# Altium schematic symbol library Custom1.SchLib: 476 symbols (part 11 of 16)
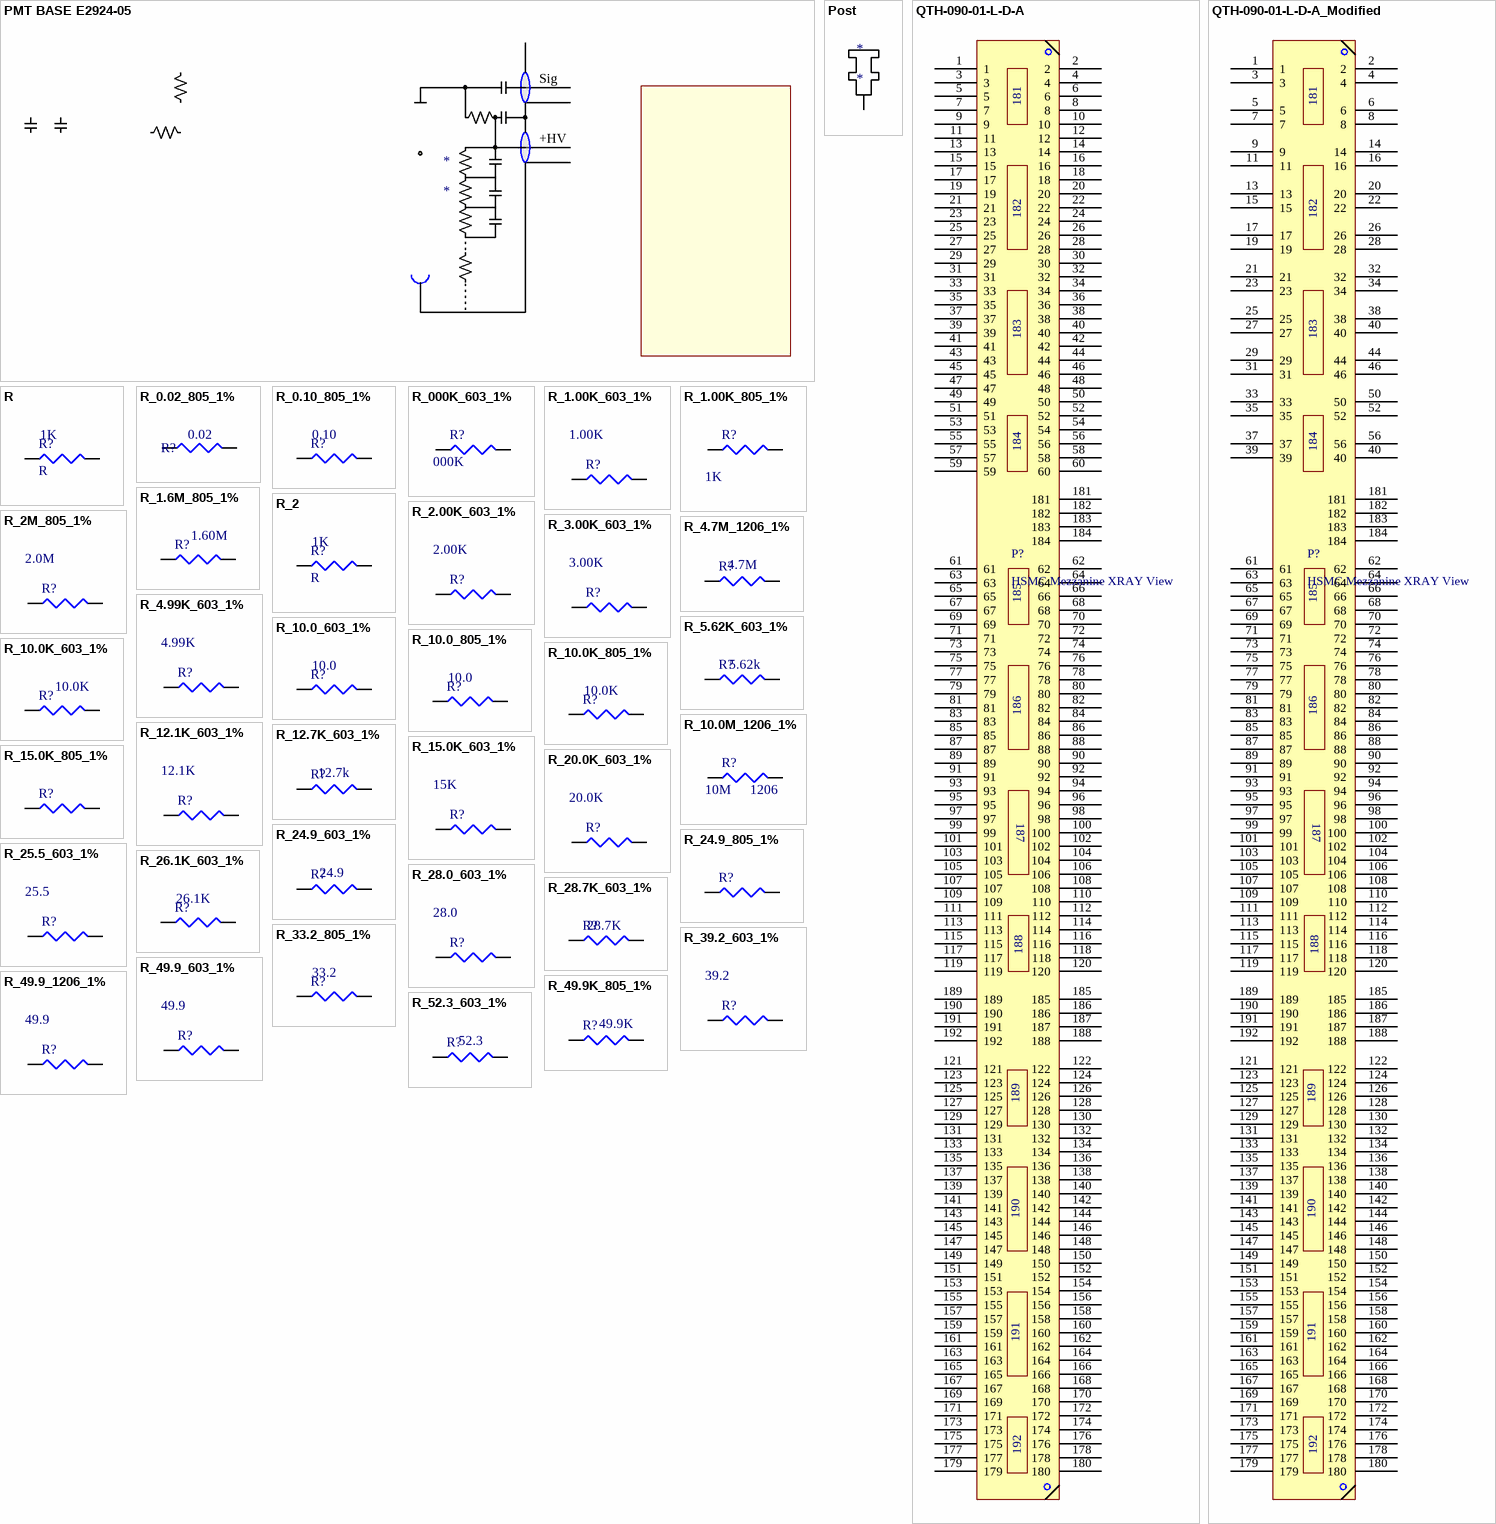
[diagram p35: symbols PMT BASE E2924-05 to R_52.3_603_1%]

## QTH-090-01-L-D-A
designator P?, comment HSMC Mezzanine XRAY View
CONN HEADER HS .5MM 180POS DL AU; Manufacturer: Samtec Inc; Manufacturer Part Number: QTH-090-01-L-D-A; Connector Type: Header, Outer Shroud Contacts; Number of Positions: 180; Pitch: 0.020" (0.50mm); Mated Stacking Heights: 5mm; Supplier 1: Digi-Key; Supplier Part Number 1: SAM8193-ND; RoHS: RoHS Compliant; Category: Connectors, Interconnects; Stock: 240; Pricing: 1=11.3, 10=10.919, 50=10.1656, 100=9.789, 250=9.60076, 500=9.4125, 1000=9.036, 2500=8.8854 (USD); Packaging: Tray; Number of Rows: 2; Mounting Type: Surface Mount; Features: Board Guide, Ground Bus (Plane); Contact Finish: Gold; Contact Finish Thickness: 10µin (0.25µm); Height Above Board: 0.168" (4.27mm); ComponentLink1URL: http://www.samtec.com/ftppub/cpdf/QTH-XXX-XX-X-D-XXX-MKT.pdf; ComponentLink1Description: http://www.samtec.com/ftppub/cpdf/QTH-XXX-XX-X-D-XXX-MKT.pdf
footprint QTH-090-01-X-D-A (0.50mm pitch, 180 pin, high speed terminal strip)
pins: 1, 2, 3, 4, 5, 6, 7, 8, 9, 10, 11, 12, 13, 14, 15, 16, 17, 18, 19, 20, 21, 22, 23, 24, 25, 26, 27, 28, 29, 30, 31, 32, 33, 34, 35, 36, 37, 38, 39, 40, 41, 42, 43, 44, 45, 46, 47, 48, 49, 50, 51, 52, 53, 54, 55, 56, 57, 58, 59, 60, 61, 62, 63, 64, 65, 66, 67, 68, 69, 70, 71, 72, 73, 74, 75, 76, 77, 78, 79, 80, 81, 82, 83, 84, 85, 86, 87, 88, 89, 90, 91, 92, 93, 94, 95, 96, 97, 98, 99, 100, 101, 102, 103, 104, 105, 106, 107, 108, 109, 110, 111, 112, 113, 114, 115, 116, 117, 118, 119, 120, 121, 122, 123, 124, 125, 126, 127, 128, 129, 130, 131, 132, 133, 134, 135, 136, 137, 138, 139, 140, 141, 142, 143, 144, 145, 146, 147, 148, 149, 150, 151, 152, 153, 154, 155, 156, 157, 158, 159, 160, 161, 162, 163, 164, 165, 166, 167, 168, 169, 170, 171, 172, 173, 174, 175, 176, 177, 178, 179, 180, 181, 182, 183, 184, 185, 186, 187, 188, 189, 190, 191, 192

## QTH-090-01-L-D-A_Modified
designator P?, comment HSMC Mezzanine XRAY View
CONN HEADER HS .5MM 180POS DL AU; Manufacturer: Samtec Inc; Manufacturer Part Number: QTH-090-01-L-D-A; Connector Type: Header, Outer Shroud Contacts; Number of Positions: 180; Pitch: 0.020" (0.50mm); Mated Stacking Heights: 5mm; Supplier 1: Digi-Key; Supplier Part Number 1: SAM8193-ND; RoHS: RoHS Compliant; Category: Connectors, Interconnects; Stock: 240; Pricing: 1=11.3, 10=10.919, 50=10.1656, 100=9.789, 250=9.60076, 500=9.4125, 1000=9.036, 2500=8.8854 (USD); Packaging: Tray; Number of Rows: 2; Mounting Type: Surface Mount; Features: Board Guide, Ground Bus (Plane); Contact Finish: Gold; Contact Finish Thickness: 10µin (0.25µm); Height Above Board: 0.168" (4.27mm); ComponentLink1URL: http://www.samtec.com/ftppub/cpdf/QTH-XXX-XX-X-D-XXX-MKT.pdf; ComponentLink1Description: http://www.samtec.com/ftppub/cpdf/QTH-XXX-XX-X-D-XXX-MKT.pdf
footprint QTH-090-01-X-D-A (0.50mm pitch, 180 pin, high speed terminal strip)
pins: 1, 2, 3, 4, 5, 6, 7, 8, 9, 11, 13, 14, 15, 16, 17, 19, 20, 21, 22, 23, 25, 26, 27, 28, 29, 31, 32, 33, 34, 35, 37, 38, 39, 40, 40, 44, 46, 50, 52, 56, 61, 62, 63, 64, 65, 66, 67, 68, 69, 70, 71, 72, 73, 74, 75, 76, 77, 78, 79, 80, 81, 82, 83, 84, 85, 86, 87, 88, 89, 90, 91, 92, 93, 94, 95, 96, 97, 98, 99, 100, 101, 102, 103, 104, 105, 106, 107, 108, 109, 110, 111, 112, 113, 114, 115, 116, 117, 118, 119, 120, 121, 122, 123, 124, 125, 126, 127, 128, 129, 130, 131, 132, 133, 134, 135, 136, 137, 138, 139, 140, 141, 142, 143, 144, 145, 146, 147, 148, 149, 150, 151, 152, 153, 154, 155, 156, 157, 158, 159, 160, 161, 162, 163, 164, 165, 166, 167, 168, 169, 170, 171, 172, 173, 174, 175, 176, 177, 178, 179, 180, 181, 182, 183, 184, 185, 186, 187, 188, 189, 190, 191, 192

## R
designator R?  value 1K
Resistor; PackageDescription: Chip Resistor; Package / Case: 0603
simulation model RESISTOR (Resistor)
signal-integrity model Res
pins: 1, 2

## R_0.02_805_1%
designator R?  value 0.02  (hidden comment: R_0.02_805_1%)
RES 0.02 OHM 1/8W 1% 0805 SMD; Manufacturer: Panasonic Electronic Components; Manufacturer Part Number: ERJ-6BWFR020V; Power (Watts): 0.5W, 1/2W; Temperature Coefficient: ±200ppm/°C; Supplier 1: Digi-Key; RoHS: RoHS Compliant; Category: Resistors; Stock 1: 32340; Pricing 1: 1=1.15, 50=0.6152, 100=0.5383, 250=0.4768, 500=0.39988, 1000=0.3076 (USD); Packaging: Cut Tape (CT); Resistance (Ohms): 0.02; Tolerance: ±1%; Composition: Thick Film; Features: Automotive AEC-Q200, Current Sense; Operating Temperature: -55°C ~ 155°C; Package / Case: 0805 (2012 Metric); Supplier Device Package: 0805; Size / Dimension: 0.079" L x 0.049" W (2.00mm x 1.25mm); Height: 0.030" (0.75mm); Number of Terminations: 2; ComponentLink1URL: http://industrial.panasonic.com/www-data/pdf/AOA0000/AOA0000CE3.pdf; ComponentLink1Description: http://industrial.panasonic.com/www-data/pdf/AOA0000/AOA0000CE3.pdf; Supplier Part Number 1: P.02AQCT-ND
simulation model RESISTOR (Resistor)
signal-integrity model Res
footprint RES_0603 (Chip Resistor, Body 1.6x0.8mm, IPC Medium Density)
footprint RES_0805 (Chip Resistor, Body 2.0x1.3mm, IPC Medium Density)
footprint RES_1206 (Chip Resistor, Body 3.2x1.6mm, IPC Medium Density)
footprint RES_0402 (Chip Resistor, Body 1.1x0.5mm, IPC Medium Density)
pins: 1, 2

## R_0.10_805_1%
designator R?  value 0.10  (hidden comment: R_0.10_805_1%)
RES 0.10 OHM 1/8W 1% 0805 SMD; Manufacturer: Bourns Inc.; Manufacturer Part Number: CRL0805-FW-R100ELF; Resistance (Ohms): 0.1; Power (Watts): 0.125W, 1/8W; Temperature Coefficient: ±200ppm/°C; Supplier 1: Digi-Key; Supplier Part Number 1: CRL0805-FW-R100ELFCT-ND; RoHS: RoHS Compliant By Exemption; Category: Resistors; Stock: 11595; Pricing: 1=0.38, 10=0.326, 25=0.2368, 50=0.1716, 100=0.1273, 250=0.09768, 500=0.07696, 1000=0.05328, 2500=0.04884 (USD); Packaging: Cut Tape (CT); Tolerance: ±1%; Composition: Thick Film; Features: -; Package / Case: 0805 (2012 Metric); Supplier Device Package: 0805; Size / Dimension: 0.079" L x 0.049" W (2.00mm x 1.25mm); Height: 0.024" (0.60mm); Number of Terminations: 2; ComponentLink1URL: http://www.bourns.com/data/global/pdfs/CRL.pdf; ComponentLink1Description: http://www.bourns.com/data/global/pdfs/CRL.pdf
simulation model RESISTOR (Resistor)
signal-integrity model Res
footprint RES_0603 (Chip Resistor, Body 1.6x0.8mm, IPC Medium Density)
footprint RES_0805 (Chip Resistor, Body 2.0x1.3mm, IPC Medium Density)
footprint RES_1206 (Chip Resistor, Body 3.2x1.6mm, IPC Medium Density)
footprint RES_0402 (Chip Resistor, Body 1.1x0.5mm, IPC Medium Density)
pins: 1, 2

## R_000K_603_1%
designator R?  value 000K  (hidden comment: R_000K_603_1%)
RES 000K OHM 1/10W 1% 0603 SMD; Manufacturer: Vishay Dale; Manufacturer Part Number: CRCW0603100KFKEA; Resistance (Ohms): 100k; Power (Watts): 0.1W, 1/10W; Temperature Coefficient: ±100ppm/°C; Supplier 1: Digi-Key; RoHS: RoHS Compliant; Category: Resistors; Stock 1: 784971; Pricing 1: 10=0.081, 50=0.0436, 200=0.0251, 1000=0.01711 (USD); Packaging: Cut Tape (CT); Tolerance: ±1%; Composition: Thick Film; Features: Automotive AEC-Q200; Operating Temperature: -55°C ~ 155°C; Package / Case: 0603 (1608 Metric); Supplier Device Package: 0603 (1608 Metric); Size / Dimension: 0.061" L x 0.033" W (1.55mm x 0.85mm); Height: 0.020" (0.50mm); Number of Terminations: 2; ComponentLink1URL: http://www.vishay.com/docs/20035/dcrcwe3.pdf; ComponentLink1Description: http://www.vishay.com/docs/20035/dcrcwe3.pdf; Supplier Part Number 1: 541-100KHCT-ND
simulation model RESISTOR (Resistor)
signal-integrity model Res
footprint RES_0603 (Chip Resistor, Body 1.6x0.8mm, IPC Medium Density)
pins: 1, 2

## R_1.00K_603_1%
designator R?  Resistance: 1.00K  (hidden comment: R_1.00K_603_1%)
RES 1.00K OHM 1/10W 1% 0603 SMD; Manufacturer: Panasonic; Manufacturer Part Number: ERJ3EKF1001V; Temperature Coefficient: 100ppm/°C; Power Rating: 100mW; Voltage Rating: 75V; Supplier 1: Digi-Key; Stock 1: 12424274; Pricing 1: 1 = 0.100000, 10 = 0.065000, 100 = 0.026400, 1000 = 0.011860, 2500 = 0.010290 (USD); RoHS: Yes; Mount: Surface Mount; Case/Package: 0603; Number of Pins: 2; Contact Plating: Tin; Case Code (Metric): 1608; Case Code (Imperial): 0603; Min Operating Temperature: -55°C; Max Operating Temperature: 155°C; Tolerance: 1%; Composition: Thick Film; Packaging: Tape and Reel; Package Quantity: 1; Number of Terminations: 2; Termination: SMD/SMT; Military Standard: Not; Max Power Dissipation: 100mW; Voltage Rating (DC): 75V; Features: Automotive AEC-Q200; Length: 1.6mm; Height: 0.45mm; Width: 0.031inch; Depth: 0.8mm; Radiation Hardening: No; REACH SVHC: No SVHC; Lead Free: Lead Free; ComponentLink1URL: https://datasheet.ciiva.com/16768/70260748-16768437.pdf?src-supplier=Allied+Electronics; ComponentLink1Description: https://datasheet.ciiva.com/16768/70260748-16768437.pdf?src-supplier=Allied+Electronics; ComponentLink2URL: https://datasheet.ciiva.com/16774/70260748-16774550.pdf?src-supplier=Allied+Electronics; ComponentLink2Description: https://datasheet.ciiva.com/16774/70260748-16774550.pdf?src-supplier=Allied+Electronics; ComponentLink3URL: https://datasheet.ciiva.com/16449/aoa0000ce2-16449065.pdf?src-supplier=Future+Electronics; ComponentLink3Description: https://datasheet.ciiva.com/16449/aoa0000ce2-16449065.pdf?src-supplier=Future+Electronics; ComponentLink4URL: https://datasheet.ciiva.com/7942/aoa0000ce2-7942427.pdf?src-supplier=Element14; ComponentLink4Description: https://datasheet.ciiva.com/7942/aoa0000ce2-7942427.pdf?src-supplier=Element14; ComponentLink5URL: https://datasheet.ciiva.com/9198/aoa0000ce2-9198923.pdf?src-supplier=Avnet; ComponentLink5Description: https://datasheet.ciiva.com/9198/aoa0000ce2-9198923.pdf?src-supplier=Avnet; ComponentLink6URL: https://datasheet.ciiva.com/46373/1678782-46373339.pdf?src-supplier=Element14; ComponentLink6Description: https://datasheet.ciiva.com/46373/1678782-46373339.pdf?src-supplier=Element14; ComponentLink7URL: https://datasheet.ciiva.com/48530/aoa0000ce2-48530987.pdf?src-supplier=Avnet; ComponentLink7Description: https://datasheet.ciiva.com/48530/aoa0000ce2-48530987.pdf?src-supplier=Avnet; ComponentLink8URL: https://datasheet.ciiva.com/46373/1678782-46373340.pdf?src-supplier=Element14; ComponentLink8Description: https://datasheet.ciiva.com/46373/1678782-46373340.pdf?src-supplier=Element14; ComponentLink9URL: https://datasheet.ciiva.com/24070/aoa0000ce2-24070269.pdf?src-supplier=Mouser; ComponentLink9Description: https://datasheet.ciiva.com/24070/aoa0000ce2-24070269.pdf?src-supplier=Mouser; ComponentLink10URL: https://datasheet.ciiva.com/22673/1678782-22673918.pdf?src-supplier=Element14; ComponentLink10Description: https://datasheet.ciiva.com/22673/1678782-22673918.pdf?src-supplier=Element14; ComponentLink11URL: https://datasheet.ciiva.com/30063/aoa0000ce2-30063390.pdf?src-supplier=Onlinecomponents.com; ComponentLink11Description: https://datasheet.ciiva.com/30063/aoa0000ce2-30063390.pdf?src-supplier=Onlinecomponents.com; ComponentLink12URL: https://datasheet.ciiva.com/17215/aoa0000ce2-17215311.pdf?src-supplier=Avnet+Europe; ComponentLink12Description: https://datasheet.ciiva.com/17215/aoa0000ce2-17215311.pdf?src-supplier=Avnet+Europe; Supplier Part Number 1: P1.00KHCT-ND
simulation model RESISTOR (Resistor)
signal-integrity model Res
footprint RES_0603 (Chip Resistor, Body 1.6x0.8mm, IPC Medium Density)
pins: 1, 2

## R_1.00K_805_1%
designator R?  value 1K  (hidden comment: R_1.00K_805_1%)
RES 1.00K OHM 1/10W 1% 0805 SMD; Manufacturer: Vishay Dale; Manufacturer Part Number: CRCW08051K00FKEA; Resistance: 1kR; Temperature Coefficient: 100ppm/°C; Power Rating: 125mW; Voltage Rating: 150V; ComponentLink1URL: http://www.vishay.com/doc?20035; ComponentLink1Description: http://www.vishay.com/doc?20035; Case/Package: 0805; Number of Pins: 2; Weight: 0.000194oz; Contact Plating: Tin; Case Code (Imperial): 0805; Case Code (Metric): 2012; Min Operating Temperature: -55°C; Max Operating Temperature: 155°C; Tolerance: 1%; Composition: Thick Film; Termination: SMD/SMT; Packaging: Tape and Reel; Package Quantity: 5000; Military Standard: Not; Voltage Rating (DC): 150V; Length: 2mm; Height: 0.45mm; Width: 1.25mm; Depth: 1.25mm; Radiation Hardening: No; Lead Free: Lead Free; REACH SVHC: Unknown; ComponentLink2URL: https://datasheet.ciiva.com/11808/0900766b80d98b26-11808530.pdf; ComponentLink2Description: https://datasheet.ciiva.com/11808/0900766b80d98b26-11808530.pdf; ComponentLink3URL: https://datasheet.ciiva.com/46381/1697337-46381606.pdf; ComponentLink3Description: https://datasheet.ciiva.com/46381/1697337-46381606.pdf; ComponentLink4URL: https://datasheet.ciiva.com/3258/dcrcwe3-3258215.pdf; ComponentLink4Description: https://datasheet.ciiva.com/3258/dcrcwe3-3258215.pdf; ComponentLink5URL: https://datasheet.ciiva.com/3258/dcrcwe3-3258216.pdf; ComponentLink5Description: https://datasheet.ciiva.com/3258/dcrcwe3-3258216.pdf; ComponentLink6URL: https://datasheet.ciiva.com/46441/1720486-46441626.pdf; ComponentLink6Description: https://datasheet.ciiva.com/46441/1720486-46441626.pdf; ComponentLink7URL: https://datasheet.ciiva.com/26312/fld-crcw-e3-data-en-26312922.pdf; ComponentLink7Description: https://datasheet.ciiva.com/26312/fld-crcw-e3-data-en-26312922.pdf; ComponentLink8URL: https://datasheet.ciiva.com/16213/dcrcwe3-16213643.pdf; ComponentLink8Description: https://datasheet.ciiva.com/16213/dcrcwe3-16213643.pdf; ComponentLink9URL: https://datasheet.ciiva.com/17204/dcrcwe3-17204396.pdf; ComponentLink9Description: https://datasheet.ciiva.com/17204/dcrcwe3-17204396.pdf; Supplier 1: Digi-Key; Supplier Part Number 1: 541-1.00KCCT-ND; Parameter 1: *
simulation model RESISTOR (Resistor)
signal-integrity model Res
footprint RES_0805 (Chip Resistor, Body 2.0x1.3mm, IPC Medium Density)
pins: 1, 2

## R_1.6M_805_1%
designator R?  value 1.60M  (hidden comment: R_1.6M_805_1%)
RES 15.0K OHM 1/8W 1% 0805 SMD; Manufacturer: Vishay Dale; Manufacturer Part Number: CRCW08051M60FKEA; Resistance (Ohms): 1.6M; Power (Watts): 0.125W, 1/8W; Temperature Coefficient: ±100ppm/°C; Supplier 1: Digi-Key; RoHS: RoHS Compliant; Category: Resistors; Stock 1: 11120; Pricing 1: 10=0.089, 50=0.0482, 200=0.02765, 1000=0.01885 (USD); Packaging: Cut Tape (CT); Tolerance: ±1%; Composition: Thick Film; Features: Automotive AEC-Q200; Operating Temperature: -55°C ~ 155°C; Package / Case: 0805 (2012 Metric); Supplier Device Package: 0805 (2012 Metric); Size / Dimension: 0.079" L x 0.049" W (2.00mm x 1.25mm); Height: 0.020" (0.50mm); Number of Terminations: 2; ComponentLink1URL: http://www.vishay.com/docs/20035/dcrcwe3.pdf; ComponentLink1Description: http://www.vishay.com/docs/20035/dcrcwe3.pdf; Supplier Part Number 1: 541-1.60MCCT-ND
simulation model RESISTOR (Resistor)
signal-integrity model Res
footprint RES_0603 (Chip Resistor, Body 1.6x0.8mm, IPC Medium Density)
footprint RES_0805 (Chip Resistor, Body 2.0x1.3mm, IPC Medium Density)
footprint RES_1206 (Chip Resistor, Body 3.2x1.6mm, IPC Medium Density)
footprint RES_0402 (Chip Resistor, Body 1.1x0.5mm, IPC Medium Density)
pins: 1, 2

## R_2
designator R?, comment R  value 1K
Resistor; PackageDescription: Chip Resistor; Package / Case: 0603
footprint J1-0603 (Chip Resistor, Body 1.6x0.8mm, IPC High Density)
footprint 14-1210 (Chip Resistor, Body 3.2x2.5mm, IPC High Density)
footprint 12Z-2010 (Chip Resistor, Body 5.0x2.5mm, IPC High Density)
footprint RESC6332 (Chip Resistor, Body 6.3x3.2mm, IPC High Density)
simulation model RESISTOR (Resistor)
signal-integrity model Res
footprint ERA-0805 (Chip Resistor; Body 2 x 1.3 mm (LxW typ))
pins: 1, 2

## R_2.00K_603_1%
designator R?  Resistance: 2.00K  (hidden comment: R_2.00K_603_1%)
RES 2.00K OHM 1/10W 1% 0603 SMD; Manufacturer: Panasonic; Manufacturer Part Number: ERJ3EKF2001V; Temperature Coefficient: 100ppm/°C; Max Power Dissipation: 100mW; Voltage Rating: 75V; Voltage Rating (DC): 50V; Supplier 1: Digi-Key; Stock 1: 3931284; Pricing 1: 1 = 0.10000, 10 = 0.06500, 100 = 0.02640, 1000 = 0.01186, 2500 = 0.01029 (USD); RoHS: Yes; Mount: Surface Mount; Case/Package: 0603; Contact Plating: Tin; Case Code (Metric): 1608; Case Code (Imperial): 0603; Min Operating Temperature: -55°C; Max Operating Temperature: 155°C; Tolerance: 1%; Composition: Thick Film; Packaging: Tape and Reel; Package Quantity: 1; Number of Terminations: 2; Features: Automotive AEC-Q200; Power Rating: 100mW; Military Standard: Not; Termination: SMD/SMT; Length: 1.6mm; Height: 0.022inch; Width: 0.031inch; Depth: 0.8mm; Radiation Hardening: No; REACH SVHC: No SVHC; Lead Free: Lead Free; ComponentLink1URL: https://datasheet.ciiva.com/16200/aoa0000ce2-16200501.pdf?src-supplier=Future+Electronics; ComponentLink1Description: https://datasheet.ciiva.com/16200/aoa0000ce2-16200501.pdf?src-supplier=Future+Electronics; ComponentLink2URL: https://datasheet.ciiva.com/43460/1678782-43460485.pdf?src-supplier=Farnell; ComponentLink2Description: https://datasheet.ciiva.com/43460/1678782-43460485.pdf?src-supplier=Farnell; ComponentLink3URL: https://datasheet.ciiva.com/28673/1678782-28673990.pdf?src-supplier=Element14; ComponentLink3Description: https://datasheet.ciiva.com/28673/1678782-28673990.pdf?src-supplier=Element14; ComponentLink4URL: https://datasheet.ciiva.com/46377/1678782-46377366.pdf?src-supplier=Element14; ComponentLink4Description: https://datasheet.ciiva.com/46377/1678782-46377366.pdf?src-supplier=Element14; ComponentLink5URL: https://datasheet.ciiva.com/30064/aoa0000ce2-30064920.pdf?src-supplier=Onlinecomponents.com; ComponentLink5Description: https://datasheet.ciiva.com/30064/aoa0000ce2-30064920.pdf?src-supplier=Onlinecomponents.com; ComponentLink6URL: https://datasheet.ciiva.com/16771/70260748-16771369.pdf?src-supplier=Allied+Electronics; ComponentLink6Description: https://datasheet.ciiva.com/16771/70260748-16771369.pdf?src-supplier=Allied+Electronics; ComponentLink7URL: https://datasheet.ciiva.com/17214/aoa0000ce2-17214393.pdf?src-supplier=Avnet+Europe; ComponentLink7Description: https://datasheet.ciiva.com/17214/aoa0000ce2-17214393.pdf?src-supplier=Avnet+Europe; ComponentLink8URL: https://datasheet.ciiva.com/6082/1678782-6082059.pdf?src-supplier=Farnell; ComponentLink8Description: https://datasheet.ciiva.com/6082/1678782-6082059.pdf?src-supplier=Farnell; ComponentLink9URL: https://datasheet.ciiva.com/24027/aoa0000ce2-24027453.pdf?src-supplier=Mouser; ComponentLink9Description: https://datasheet.ciiva.com/24027/aoa0000ce2-24027453.pdf?src-supplier=Mouser; Supplier Part Number 1: P2.00KHCT-ND
simulation model RESISTOR (Resistor)
signal-integrity model Res
footprint RES_0603 (Chip Resistor, Body 1.6x0.8mm, IPC Medium Density)
pins: 1, 2

## R_2M_805_1%
designator R?  Resistance: 2.0M  (hidden comment: R_2M_805_1%)
RES 2M OHM 1/8W 1% 0805 SMD; Manufacturer: Panasonic; Manufacturer Part Number: ERJ-6ENF2004V; Power Rating: 125mW; Voltage Rating: 150V; Temperature Coefficient: 100ppm/°C; ComponentLink1URL: http://www.vishay.com/docs/28773/crcwce3.pdf?src-supplier=Digi-Key; ComponentLink1Description: http://www.vishay.com/docs/28773/crcwce3.pdf?src-supplier=Digi-Key; Supplier 1: Digi-Key; Stock 1: 159494; Pricing 1: 1=0.10000, 10=0.08100, 100=0.03110, 1000=0.01367, 2500=0.01181 (USD); RoHS: Yes; Mount: Surface Mount; Case/Package: 0805; Case Code (Metric): 2012; Case Code (Imperial): 0805; Contact Plating: Tin; Min Operating Temperature: -55°C; Max Operating Temperature: 155°C; Tolerance: 1%; Packaging: Tape and Reel; Package Quantity: 1; Composition: Thick Film; Number of Terminations: 2; Termination: SMD/SMT; Military Standard: Not; Max Power Dissipation: 125mW; Voltage Rating (DC): 150V; Features: Automotive AEC-Q200; Length: 2mm; Height: 0.6mm; Width: 0.049inch; Depth: 1.25mm; Radiation Hardening: No; REACH SVHC: No SVHC; Lead Free: Lead Free; ComponentLink2URL: https://datasheet.ciiva.com/11821/0900766b80f80784-11821606.pdf?src-supplier=RSComponents; ComponentLink2Description: https://datasheet.ciiva.com/11821/0900766b80f80784-11821606.pdf?src-supplier=RSComponents; ComponentLink3URL: https://datasheet.ciiva.com/27055/1989148-27055740.pdf?src-supplier=Jameco; ComponentLink3Description: https://datasheet.ciiva.com/27055/1989148-27055740.pdf?src-supplier=Jameco; ComponentLink4URL: https://datasheet.ciiva.com/46420/1678782-46420189.pdf?src-supplier=Element14; ComponentLink4Description: https://datasheet.ciiva.com/46420/1678782-46420189.pdf?src-supplier=Element14; ComponentLink5URL: https://datasheet.ciiva.com/16776/70260748-16776719.pdf?src-supplier=Allied+Electronics; ComponentLink5Description: https://datasheet.ciiva.com/16776/70260748-16776719.pdf?src-supplier=Allied+Electronics; Supplier Part Number 1: P2.00MCCT-ND
simulation model RESISTOR (Resistor)
signal-integrity model Res
footprint RES_0603 (Chip Resistor, Body 1.6x0.8mm, IPC Medium Density)
footprint RES_0805 (Chip Resistor, Body 2.0x1.3mm, IPC Medium Density)
footprint RES_1206 (Chip Resistor, Body 3.2x1.6mm, IPC Medium Density)
footprint RES_0402 (Chip Resistor, Body 1.1x0.5mm, IPC Medium Density)
pins: 1, 2

## R_3.00K_603_1%
designator R?  Resistance: 3.00K  (hidden comment: R_3.00K_603_1%)
RES 3.00K OHM 1/10W 1% 0603 SMD; Manufacturer: Panasonic; Manufacturer Part Number: ERJ3EKF3001V; Power Rating: 100mW; Voltage Rating: 75V; Temperature Coefficient: 100ppm/°C; Supplier 1: Digi-Key; Stock 1: 718346; Pricing 1: 1 = 0.10000, 10 = 0.06500, 100 = 0.02640, 1000 = 0.01186, 2500 = 0.01029 (USD); RoHS: Yes; Mount: Surface Mount; Case/Package: 0603; Case Code (Metric): 1608; Case Code (Imperial): 0603; Contact Plating: Tin; Min Operating Temperature: -55°C; Max Operating Temperature: 155°C; Packaging: Tape and Reel; Tolerance: 1%; Package Quantity: 1; Composition: Thick Film; Number of Terminations: 2; Termination: SMD/SMT; Military Standard: Not; Max Power Dissipation: 100mW; Voltage Rating (DC): 75V; Features: Automotive AEC-Q200; Length: 1.6mm; Height: 0.022inch; Width: 0.031inch; Depth: 0.8mm; Radiation Hardening: No; REACH SVHC: No SVHC; Lead Free: Lead Free; ComponentLink1URL: https://datasheet.ciiva.com/16782/70260748-16782535.pdf?src-supplier=Allied+Electronics; ComponentLink1Description: https://datasheet.ciiva.com/16782/70260748-16782535.pdf?src-supplier=Allied+Electronics; ComponentLink2URL: https://datasheet.ciiva.com/46373/1678782-46373975.pdf?src-supplier=Element14; ComponentLink2Description: https://datasheet.ciiva.com/46373/1678782-46373975.pdf?src-supplier=Element14; ComponentLink3URL: https://datasheet.ciiva.com/9116/aoa0000ce2-9116984.pdf?src-supplier=Avnet; ComponentLink3Description: https://datasheet.ciiva.com/9116/aoa0000ce2-9116984.pdf?src-supplier=Avnet; ComponentLink4URL: https://datasheet.ciiva.com/46386/1678782-46386728.pdf?src-supplier=Element14; ComponentLink4Description: https://datasheet.ciiva.com/46386/1678782-46386728.pdf?src-supplier=Element14; ComponentLink5URL: https://datasheet.ciiva.com/9116/aoa0000ce2-9116986.pdf?src-supplier=Avnet; ComponentLink5Description: https://datasheet.ciiva.com/9116/aoa0000ce2-9116986.pdf?src-supplier=Avnet; ComponentLink6URL: https://datasheet.ciiva.com/30198/aoa0000ce2-30198332.pdf?src-supplier=Onlinecomponents.com; ComponentLink6Description: https://datasheet.ciiva.com/30198/aoa0000ce2-30198332.pdf?src-supplier=Onlinecomponents.com; ComponentLink7URL: https://datasheet.ciiva.com/24027/aoa0000ce2-24027133.pdf?src-supplier=Mouser; ComponentLink7Description: https://datasheet.ciiva.com/24027/aoa0000ce2-24027133.pdf?src-supplier=Mouser; ComponentLink8URL: https://datasheet.ciiva.com/28565/1678782-28565103.pdf?src-supplier=Element14; ComponentLink8Description: https://datasheet.ciiva.com/28565/1678782-28565103.pdf?src-supplier=Element14; Supplier Part Number 1: P3.00KHCT-ND
simulation model RESISTOR (Resistor)
signal-integrity model Res
footprint RES_0603 (Chip Resistor, Body 1.6x0.8mm, IPC Medium Density)
pins: 1, 2

## R_4.7M_1206_1%
designator R?  Resistance: 4.7M  (hidden comment: R_4.7M_1206_1%)
4.7 MOhms ±1% 0.25W, 1/4W Chip Resistor 1206 (3216 Metric) Automotive AEC-Q200, High Voltage Thick Film; Manufacturer: Rohm; Manufacturer Part Number: KTR18EZPF4704; Power Rating: 250mW; Temperature Coefficient: 100ppm/°C; ComponentLink1Description: Datasheet; ComponentLink1URL: https://www.rohm.com/datasheet/KTR03EZPF/ktr-e; ComponentLink2Description: Supplier Link; ComponentLink2URL: https://www.digikey.com/products/en?keywords=RHM4.7MAICT-ND; Supplier 1: Digi-Key; Stock 1: 6349; Pricing 1: 1=0.21000, 10=0.17800, 100=0.06950, 1000=0.02911, 2500=0.02668 (USD); RoHS: Yes; Tolerance: 1%; Lead Free: Lead Free; ComponentLink3URL: https://www.rohm.com/datasheet/KTR03EZPF/ktr-e?src-supplier=Digi-Key; ComponentLink3Description: https://www.rohm.com/datasheet/KTR03EZPF/ktr-e?src-supplier=Digi-Key; ComponentLink4URL: http://rohmfs.rohm.com/en/products/databook/datasheet/passive/resistor/chip_resistor/ktr.pdf?src-supplier=Future+Electronics; ComponentLink4Description: http://rohmfs.rohm.com/en/products/databook/datasheet/passive/resistor/chip_resistor/ktr.pdf?src-supplier=Future+Electronics; Supplier Part Number 1: RHM4.7MAICT-ND
simulation model RESISTOR (Resistor)
signal-integrity model Res
footprint RES_1206 (Chip Resistor, Body 3.2x1.6mm, IPC Medium Density)
pins: 1, 2

## R_4.99K_603_1%
designator R?  Resistance: 4.99K  (hidden comment: R_4.99K_603_1%)
RES 4.99K OHM 1/10W 1% 0603 SMD; Manufacturer: Panasonic; Manufacturer Part Number: ERJ3EKF4991V; Temperature Coefficient: 100ppm/°C; Power Rating: 100mW; Voltage Rating: 22.34V; Voltage Rating (DC): 50V; Supplier 1: Digi-Key; Stock 1: 2729693; Pricing 1: 1 = 0.10000, 10 = 0.06500, 100 = 0.02640, 1000 = 0.01186, 2500 = 0.01029 (USD); RoHS: Yes; Mount: Surface Mount; Case/Package: 0603; Contact Plating: Tin; Case Code (Metric): 1608; Case Code (Imperial): 0603; Min Operating Temperature: -55°C; Max Operating Temperature: 155°C; Tolerance: 1%; Composition: Thick Film; Packaging: Tape and Reel; Package Quantity: 1; Number of Terminations: 2; Termination: SMD/SMT; Military Standard: Not; Max Power Dissipation: 100mW; Features: Automotive AEC-Q200; Length: 1.6mm; Height: 0.022inch; Width: 0.031inch; Depth: 0.8mm; Radiation Hardening: No; REACH SVHC: No SVHC; Lead Free: Lead Free; ComponentLink1URL: https://datasheet.ciiva.com/6064/1678796-6064566.pdf?src-supplier=Farnell; ComponentLink1Description: https://datasheet.ciiva.com/6064/1678796-6064566.pdf?src-supplier=Farnell; ComponentLink2URL: https://datasheet.ciiva.com/16514/aoa0000ce2-16514087.pdf?src-supplier=Avnet+Asia; ComponentLink2Description: https://datasheet.ciiva.com/16514/aoa0000ce2-16514087.pdf?src-supplier=Avnet+Asia; ComponentLink3URL: https://datasheet.ciiva.com/22749/1678782-22749655.pdf?src-supplier=Element14; ComponentLink3Description: https://datasheet.ciiva.com/22749/1678782-22749655.pdf?src-supplier=Element14; ComponentLink4URL: https://datasheet.ciiva.com/24068/aoa0000ce2-24068247.pdf?src-supplier=Mouser; ComponentLink4Description: https://datasheet.ciiva.com/24068/aoa0000ce2-24068247.pdf?src-supplier=Mouser; ComponentLink5URL: https://datasheet.ciiva.com/48531/aoa0000ce2-48531015.pdf?src-supplier=Avnet; ComponentLink5Description: https://datasheet.ciiva.com/48531/aoa0000ce2-48531015.pdf?src-supplier=Avnet; ComponentLink6URL: https://datasheet.ciiva.com/16767/70260748-16767032.pdf?src-supplier=Allied+Electronics; ComponentLink6Description: https://datasheet.ciiva.com/16767/70260748-16767032.pdf?src-supplier=Allied+Electronics; ComponentLink7URL: https://datasheet.ciiva.com/28694/1678782-28694217.pdf?src-supplier=Element14; ComponentLink7Description: https://datasheet.ciiva.com/28694/1678782-28694217.pdf?src-supplier=Element14; ComponentLink8URL: https://datasheet.ciiva.com/30108/aoa0000ce2-30108827.pdf?src-supplier=Onlinecomponents.com; ComponentLink8Description: https://datasheet.ciiva.com/30108/aoa0000ce2-30108827.pdf?src-supplier=Onlinecomponents.com; ComponentLink9URL: https://datasheet.ciiva.com/9117/aoa0000ce2-9117117.pdf?src-supplier=Avnet; ComponentLink9Description: https://datasheet.ciiva.com/9117/aoa0000ce2-9117117.pdf?src-supplier=Avnet; ComponentLink10URL: https://datasheet.ciiva.com/46376/1678796-46376941.pdf?src-supplier=Element14; ComponentLink10Description: https://datasheet.ciiva.com/46376/1678796-46376941.pdf?src-supplier=Element14; Supplier Part Number 1: P4.99KHCT-ND
simulation model RESISTOR (Resistor)
signal-integrity model Res
footprint RES_0603 (Chip Resistor, Body 1.6x0.8mm, IPC Medium Density)
pins: 1, 2

## R_5.62K_603_1%
designator R?  Resistance (Ohms): 5.62k  (hidden comment: R_5.62K_603_1%)
RES 5.62K OHM 1/10W 1% 0603 SMD; Manufacturer: Vishay Dale; Manufacturer Part Number: CRCW06035K62FKEA; Power (Watts): 0.1W, 1/10W; Temperature Coefficient: ±100ppm/°C; Supplier 1: Digi-Key; RoHS: RoHS Compliant; Category: Resistors; Stock 1: 54990; Pricing 1: 10=0.081, 50=0.0436, 200=0.0251, 1000=0.01711 (USD); Packaging: Cut Tape (CT); Tolerance: ±1%; Composition: Thick Film; Features: Automotive AEC-Q200; Operating Temperature: -55°C ~ 155°C; Package / Case: 0603 (1608 Metric); Supplier Device Package: 0603 (1608 Metric); Size / Dimension: 0.061" L x 0.033" W (1.55mm x 0.85mm); Height: 0.020" (0.50mm); Number of Terminations: 2; ComponentLink1URL: http://www.vishay.com/docs/20035/dcrcwe3.pdf; ComponentLink1Description: http://www.vishay.com/docs/20035/dcrcwe3.pdf; Supplier Part Number 1: 541-5.62KHCT-ND
simulation model RESISTOR (Resistor)
signal-integrity model Res
footprint RES_0603 (Chip Resistor, Body 1.6x0.8mm, IPC Medium Density)
pins: 1, 2

## R_10.0_603_1%
designator R?  Resistance: 10.0  (hidden comment: R_10.0_603_1%)
RES 10.0 OHM 1/10W 1% 0603 SMD; Manufacturer: Panasonic; Manufacturer Part Number: ERJ3EKF10R0V; Power Rating: 100mW; Voltage Rating: 75V; Temperature Coefficient: 100ppm/°C; ComponentLink1Description: Datasheet; ComponentLink1URL: https://industrial.panasonic.com/cdbs/www-data/pdf/RDA0000/AOA0000C304.pdf; Supplier 1: Digi-Key; Stock 1: 1920000; Pricing 1: 5000 = 0.007730, 10000 = 0.006710, 25000 = 0.005900, 50000 = 0.005410, 125000 = 0.005300 (USD); RoHS: Yes; Mount: Surface Mount; Case/Package: 0603; Number of Pins: 2; Case Code (Imperial): 0603; Case Code (Metric): 1608; Contact Plating: Tin; Min Operating Temperature: -55°C; Max Operating Temperature: 155°C; Tolerance: 1%; Packaging: Tape and Reel; Package Quantity: 5000; Composition: Thick Film; Number of Terminations: 2; Termination: SMD/SMT; Military Standard: Not; Max Power Dissipation: 100mW; Voltage Rating (DC): 75V; Features: Automotive AEC-Q200; Working Voltage: 75V; Length: 1.6mm; Height: 0.45mm; Width: 0.8mm; Depth: 0.8mm; Radiation Hardening: No; REACH SVHC: No SVHC; Lead Free: Lead Free; ComponentLink2URL: https://datasheet.ciiva.com/9194/aoa0000ce2-9194166.pdf?src-supplier=Avnet; ComponentLink2Description: https://datasheet.ciiva.com/9194/aoa0000ce2-9194166.pdf?src-supplier=Avnet; ComponentLink3URL: https://datasheet.ciiva.com/30170/aoa0000ce2-30170135.pdf?src-supplier=Onlinecomponents.com; ComponentLink3Description: https://datasheet.ciiva.com/30170/aoa0000ce2-30170135.pdf?src-supplier=Onlinecomponents.com; Supplier Part Number 1: P10.0HTR-ND
simulation model RESISTOR (Resistor)
signal-integrity model Res
footprint RES_0603 (Chip Resistor, Body 1.6x0.8mm, IPC Medium Density)
footprint RES_0805 (Chip Resistor, Body 2.0x1.3mm, IPC Medium Density)
footprint RES_1206 (Chip Resistor, Body 3.2x1.6mm, IPC Medium Density)
footprint RES_0402 (Chip Resistor, Body 1.1x0.5mm, IPC Medium Density)
pins: 1, 2

## R_10.0_805_1%
designator R?  value 10.0  (hidden comment: R_10.0_805_1%)
RES 10.0 OHM 1/8W 1% 0805 SMD; Manufacturer: Vishay Dale; Manufacturer Part Number: CRCW080510R0FKEA; Resistance (Ohms): 10; Power (Watts): 0.125W, 1/8W; Temperature Coefficient: ±100ppm/°C; Supplier 1: Digi-Key; Supplier Part Number 1: 541-10.0CCT-ND; RoHS: RoHS Compliant; Category: Resistors; Stock: 0; Pricing: 10=0.089, 50=0.0482, 200=0.02765, 1000=0.01885 (USD); Packaging: Cut Tape (CT); Tolerance: ±1%; Composition: Thick Film; Features: Automotive AEC-Q200 Qualified; Package / Case: 0805 (2012 Metric); Supplier Device Package: 0805 (2012 Metric); Size / Dimension: 0.079" L x 0.049" W (2.00mm x 1.25mm); Height: 0.020" (0.50mm); Number of Terminations: 2; ComponentLink1URL: http://www.vishay.com/doc?20035; ComponentLink1Description: http://www.vishay.com/doc?20035
simulation model RESISTOR (Resistor)
signal-integrity model Res
footprint RES_0603 (Chip Resistor, Body 1.6x0.8mm, IPC Medium Density)
footprint RES_0805 (Chip Resistor, Body 2.0x1.3mm, IPC Medium Density)
footprint RES_1206 (Chip Resistor, Body 3.2x1.6mm, IPC Medium Density)
footprint RES_0402 (Chip Resistor, Body 1.1x0.5mm, IPC Medium Density)
pins: 1, 2

## R_10.0K_603_1%
designator R?  value 10.0K  (hidden comment: R_10.0K_603_1%)
RES 10.0K OHM 1/10W 1% 0603 SMD; Manufacturer: Panasonic; Manufacturer Part Number: ERJ3EKF1002V; Resistance: 10kR; Power Rating: 100mW; Voltage Rating: 75V; Temperature Coefficient: 100ppm/°C; Supplier 1: Digi-Key; Stock 1: 15986261; Pricing 1: 1 = 0.10000, 10 = 0.06500, 100 = 0.02640, 1000 = 0.01186, 2500 = 0.01029 (USD); RoHS: Yes; Mount: Surface Mount; Case/Package: 0603; Number of Pins: 2; Case Code (Metric): 1608; Case Code (Imperial): 0603; Contact Plating: Tin; Min Operating Temperature: -55°C; Max Operating Temperature: 155°C; Tolerance: 1%; Packaging: Tape and Reel; Package Quantity: 1; Composition: Thick Film; Number of Terminations: 2; Termination: SMD/SMT; Military Standard: Not; Max Power Dissipation: 100mW; Voltage Rating (DC): 75V; Features: Automotive AEC-Q200; Length: 1.6mm; Height: 0.45mm; Width: 0.031inch; Depth: 0.8mm; Radiation Hardening: No; REACH SVHC: No SVHC; Lead Free: Lead Free; Supplier Part Number 1: P10.0KHCT-ND; ComponentLink1Description: Tech Guide; ComponentLink1URL: https://industrial.panasonic.com/cdbs/www-data/pdf/RDA0000/DMA0000COL11.pdf?src-supplier=RSComponents; ComponentLink2Description: Supplier Link; ComponentLink2URL: https://www.digikey.com/products/en?keywords=P10.0KHCT-ND; ComponentLink3Description: Datasheet; ComponentLink3URL: https://industrial.panasonic.com/cdbs/www-data/pdf/RDA0000/AOA0000C304.pdf
simulation model RESISTOR (Resistor)
signal-integrity model Res
footprint RES_0603 (Chip Resistor, Body 1.6x0.8mm, IPC Medium Density)
pins: 1, 2

## R_10.0K_805_1%
designator R?  value 10.0K  (hidden comment: R_10.0K_805_1%)
RES 10.0K OHM 1/8W 1% 0805 SMD; Manufacturer: Vishay Dale; Manufacturer Part Number: CRCW080510K0FKEA; Resistance (Ohms): 10k; Power (Watts): 0.125W, 1/8W; Temperature Coefficient: ±100ppm/°C; Supplier 1: Digi-Key; RoHS: RoHS Compliant; Category: Resistors; Stock 1: 1198981; Pricing 1: 10=0.089, 50=0.0482, 200=0.02765, 1000=0.01885 (USD); Packaging: Cut Tape (CT); Tolerance: ±1%; Composition: Thick Film; Features: Automotive AEC-Q200; Operating Temperature: -55°C ~ 155°C; Package / Case: 0805 (2012 Metric); Supplier Device Package: 0805 (2012 Metric); Size / Dimension: 0.079" L x 0.049" W (2.00mm x 1.25mm); Height: 0.020" (0.50mm); Number of Terminations: 2; ComponentLink1URL: http://www.vishay.com/docs/20035/dcrcwe3.pdf; ComponentLink1Description: http://www.vishay.com/docs/20035/dcrcwe3.pdf; Supplier Part Number 1: 541-10.0KCCT-ND
simulation model RESISTOR (Resistor)
signal-integrity model Res
footprint RES_0603 (Chip Resistor, Body 1.6x0.8mm, IPC Medium Density)
footprint RES_0805 (Chip Resistor, Body 2.0x1.3mm, IPC Medium Density)
footprint RES_1206 (Chip Resistor, Body 3.2x1.6mm, IPC Medium Density)
footprint RES_0402 (Chip Resistor, Body 1.1x0.5mm, IPC Medium Density)
pins: 1, 2

## R_10.0M_1206_1%
designator R?  value 10M  SIZE: 1206  (hidden comment: R_10.0M_1206_1%)
RES SMD 10M OHM 1% 1/4W 1206; Manufacturer: Rohm Semiconductor; Manufacturer Part Number: KTR18EZPF1005; Power (Watts): 0.25W, 1/4W; Temperature Coefficient: ±100ppm/°C; Voltage: 200V; Supplier 1: Digi-Key; RoHS: RoHS Compliant; Category: Resistors; Stock 1: 4154; Pricing 1: 1=0.2, 10=0.169, 25=0.1232, 100=0.0662, 250=0.05084, 500=0.04004, 1000=0.02772 (USD); Packaging: Cut Tape (CT); Resistance (Ohms): 10M; Tolerance: ±1%; Composition: Thick Film; Features: Automotive AEC-Q200, High Voltage; Operating Temperature: -55°C ~ 155°C; Package / Case: 1206 (3216 Metric); Supplier Device Package: 1206 (3216 Metric); Size / Dimension: 0.126" L x 0.063" W (3.20mm x 1.60mm); Height: 0.026" (0.65mm); Number of Terminations: 2; ComponentLink1URL: http://rohmfs.rohm.com/en/products/databook/datasheet/passive/resistor/chip_resistor/ktr.pdf; ComponentLink1Description: http://rohmfs.rohm.com/en/products/databook/datasheet/passive/resistor/chip_resistor/ktr.pdf; Supplier Part Number 1: RHM10.0MAICT-ND
simulation model RESISTOR (Resistor)
signal-integrity model Res
footprint RES_1206 (Chip Resistor, Body 3.2x1.6mm, IPC Medium Density)
pins: 1, 2

## R_12.1K_603_1%
designator R?  Resistance: 12.1K  (hidden comment: R_12.1K_603_1%)
RES 12.1K OHM 1/10W 1% 0603 SMD; Manufacturer: Panasonic; Manufacturer Part Number: ERJ3EKF1212V; Temperature Coefficient: 100ppm/°C; Power Rating: 100mW; Voltage Rating: 75V; Voltage Rating (DC): 50V; Supplier 1: Digi-Key; Stock 1: 528573; Pricing 1: 1 = 0.10000, 10 = 0.06500, 100 = 0.02640, 1000 = 0.01186, 2500 = 0.01029 (USD); RoHS: Yes; Mount: Surface Mount; Case/Package: 0603; Weight: 7.1E-05oz; Contact Plating: Tin; Case Code (Imperial): 0603; Case Code (Metric): 1608; Min Operating Temperature: -55°C; Max Operating Temperature: 155°C; Tolerance: 1%; Composition: Thick Film; Packaging: Tape and Reel; Package Quantity: 1; Termination: SMD/SMT; Number of Terminations: 2; Military Standard: Not; Max Power Dissipation: 100mW; Features: Automotive AEC-Q200; Length: 1.6mm; Height: 0.45mm; Width: 0.8mm; Depth: 0.8mm; Radiation Hardening: No; REACH SVHC: No SVHC; Lead Free: Lead Free; ComponentLink1URL: https://datasheet.ciiva.com/16440/aoa0000ce2-16440213.pdf?src-supplier=Future+Electronics; ComponentLink1Description: https://datasheet.ciiva.com/16440/aoa0000ce2-16440213.pdf?src-supplier=Future+Electronics; ComponentLink2URL: https://datasheet.ciiva.com/15158/getdatasheetpartid-248020-15158954.pdf?src-supplier=Verical; ComponentLink2Description: https://datasheet.ciiva.com/15158/getdatasheetpartid-248020-15158954.pdf?src-supplier=Verical; ComponentLink3URL: https://datasheet.ciiva.com/28672/1678782-28672346.pdf?src-supplier=Element14; ComponentLink3Description: https://datasheet.ciiva.com/28672/1678782-28672346.pdf?src-supplier=Element14; ComponentLink4URL: https://datasheet.ciiva.com/28531/1678782-28531532.pdf?src-supplier=Element14; ComponentLink4Description: https://datasheet.ciiva.com/28531/1678782-28531532.pdf?src-supplier=Element14; ComponentLink5URL: https://datasheet.ciiva.com/46377/426256-46377260.pdf?src-supplier=Element14; ComponentLink5Description: https://datasheet.ciiva.com/46377/426256-46377260.pdf?src-supplier=Element14; ComponentLink6URL: https://datasheet.ciiva.com/16780/70260748-16780726.pdf?src-supplier=Allied+Electronics; ComponentLink6Description: https://datasheet.ciiva.com/16780/70260748-16780726.pdf?src-supplier=Allied+Electronics; ComponentLink7URL: https://datasheet.ciiva.com/16759/70260748-16759847.pdf?src-supplier=Allied+Electronics; ComponentLink7Description: https://datasheet.ciiva.com/16759/70260748-16759847.pdf?src-supplier=Allied+Electronics; ComponentLink8URL: https://datasheet.ciiva.com/30179/aoa0000ce2-30179722.pdf?src-supplier=Onlinecomponents.com; ComponentLink8Description: https://datasheet.ciiva.com/30179/aoa0000ce2-30179722.pdf?src-supplier=Onlinecomponents.com; ComponentLink9URL: https://datasheet.ciiva.com/46388/426256-46388922.pdf?src-supplier=Element14; ComponentLink9Description: https://datasheet.ciiva.com/46388/426256-46388922.pdf?src-supplier=Element14; ComponentLink10URL: https://datasheet.ciiva.com/6129/426256-6129627.pdf?src-supplier=Farnell; ComponentLink10Description: https://datasheet.ciiva.com/6129/426256-6129627.pdf?src-supplier=Farnell; Supplier Part Number 1: P12.1KHCT-ND
simulation model RESISTOR (Resistor)
signal-integrity model Res
footprint RES_0603 (Chip Resistor, Body 1.6x0.8mm, IPC Medium Density)
pins: 1, 2

## R_12.7K_603_1%
designator R?  Resistance (Ohms): 12.7k  (hidden comment: R_12.7K_603_1%)
RES 12.7K OHM 1/10W 1% 0603 SMD; Manufacturer: Vishay Dale; Manufacturer Part Number: CRCW060312K7FKEA; Power (Watts): 0.1W, 1/10W; Temperature Coefficient: ±100ppm/°C; Supplier 1: Digi-Key; RoHS: RoHS Compliant; Category: Resistors; Stock 1: 31394; Pricing 1: 10=0.081, 50=0.0436, 200=0.0251, 1000=0.01711 (USD); Packaging: Cut Tape (CT); Tolerance: ±1%; Composition: Thick Film; Features: Automotive AEC-Q200; Operating Temperature: -55°C ~ 155°C; Package / Case: 0603 (1608 Metric); Supplier Device Package: 0603 (1608 Metric); Size / Dimension: 0.061" L x 0.033" W (1.55mm x 0.85mm); Height: 0.020" (0.50mm); Number of Terminations: 2; ComponentLink1URL: http://www.vishay.com/docs/20035/dcrcwe3.pdf; ComponentLink1Description: http://www.vishay.com/docs/20035/dcrcwe3.pdf; Supplier Part Number 1: 541-12.7KHCT-ND
simulation model RESISTOR (Resistor)
signal-integrity model Res
footprint RES_0603 (Chip Resistor, Body 1.6x0.8mm, IPC Medium Density)
pins: 1, 2

## R_15.0K_603_1%
designator R?  Resistance: 15K  (hidden comment: R_15.0K_603_1%)
RES 15.0K OHM 1/10W 1% 0603 SMD; Manufacturer: Panasonic; Manufacturer Part Number: ERJ3EKF1502V; Temperature Coefficient: 100ppm/°C; Power Rating: 100mW; Voltage Rating: 75V; Supplier 1: Digi-Key; Stock 1: 577749; Pricing 1: 1 = 0.10000, 10 = 0.06500, 100 = 0.02640, 1000 = 0.01186, 2500 = 0.01029 (USD); RoHS: Yes; Mount: Surface Mount; Case/Package: 0603; Number of Pins: 2; Contact Plating: Tin; Case Code (Metric): 1608; Case Code (Imperial): 0603; Min Operating Temperature: -55°C; Max Operating Temperature: 155°C; Tolerance: 1%; Composition: Thick Film; Packaging: Tape and Reel; Package Quantity: 1; Number of Terminations: 2; Military Standard: Not; Termination: SMD/SMT; Max Power Dissipation: 100mW; Voltage Rating (DC): 75V; Features: Automotive AEC-Q200; Length: 1.6mm; Height: 0.022inch; Width: 0.031inch; Depth: 0.8mm; Radiation Hardening: No; REACH SVHC: No SVHC; Lead Free: Lead Free; ComponentLink1URL: https://datasheet.ciiva.com/16770/70260748-16770997.pdf?src-supplier=Allied+Electronics; ComponentLink1Description: https://datasheet.ciiva.com/16770/70260748-16770997.pdf?src-supplier=Allied+Electronics; ComponentLink2URL: https://datasheet.ciiva.com/7830/426256-7830982.pdf?src-supplier=Element14; ComponentLink2Description: https://datasheet.ciiva.com/7830/426256-7830982.pdf?src-supplier=Element14; ComponentLink3URL: https://datasheet.ciiva.com/24026/aoa0000ce2-24026054.pdf?src-supplier=Mouser; ComponentLink3Description: https://datasheet.ciiva.com/24026/aoa0000ce2-24026054.pdf?src-supplier=Mouser; ComponentLink4URL: https://datasheet.ciiva.com/6138/aoa0000ce2-6138183.pdf?src-supplier=Farnell; ComponentLink4Description: https://datasheet.ciiva.com/6138/aoa0000ce2-6138183.pdf?src-supplier=Farnell; ComponentLink5URL: https://datasheet.ciiva.com/48530/aoa0000ce2-48530983.pdf?src-supplier=Avnet; ComponentLink5Description: https://datasheet.ciiva.com/48530/aoa0000ce2-48530983.pdf?src-supplier=Avnet; ComponentLink6URL: https://datasheet.ciiva.com/9193/aoa0000ce2-9193001.pdf?src-supplier=Avnet; ComponentLink6Description: https://datasheet.ciiva.com/9193/aoa0000ce2-9193001.pdf?src-supplier=Avnet; ComponentLink7URL: https://datasheet.ciiva.com/16762/70260748-16762729.pdf?src-supplier=Allied+Electronics; ComponentLink7Description: https://datasheet.ciiva.com/16762/70260748-16762729.pdf?src-supplier=Allied+Electronics; ComponentLink8URL: https://datasheet.ciiva.com/22722/426256-22722779.pdf?src-supplier=Element14; ComponentLink8Description: https://datasheet.ciiva.com/22722/426256-22722779.pdf?src-supplier=Element14; ComponentLink9URL: https://datasheet.ciiva.com/7830/aoa0000ce2-7830732.pdf?src-supplier=Element14; ComponentLink9Description: https://datasheet.ciiva.com/7830/aoa0000ce2-7830732.pdf?src-supplier=Element14; ComponentLink10URL: https://datasheet.ciiva.com/46372/1678782-46372846.pdf?src-supplier=Element14; ComponentLink10Description: https://datasheet.ciiva.com/46372/1678782-46372846.pdf?src-supplier=Element14; ComponentLink11URL: https://datasheet.ciiva.com/46372/1678782-46372847.pdf?src-supplier=Element14; ComponentLink11Description: https://datasheet.ciiva.com/46372/1678782-46372847.pdf?src-supplier=Element14; Supplier Part Number 1: P15.0KHCT-ND
simulation model RESISTOR (Resistor)
signal-integrity model Res
footprint RES_0603 (Chip Resistor, Body 1.6x0.8mm, IPC Medium Density)
pins: 1, 2

## R_15.0K_805_1%
designator R?  (value not drawn)
RES 15.0K OHM 1/8W 1% 0805 SMD
simulation model RESISTOR (Resistor)
signal-integrity model Res
footprint RES_0603 (Chip Resistor, Body 1.6x0.8mm, IPC Medium Density)
footprint RES_0805 (Chip Resistor, Body 2.0x1.3mm, IPC Medium Density)
footprint RES_1206 (Chip Resistor, Body 3.2x1.6mm, IPC Medium Density)
footprint RES_0402 (Chip Resistor, Body 1.1x0.5mm, IPC Medium Density)
pins: 1, 2

## R_20.0K_603_1%
designator R?  Resistance: 20.0K  (hidden comment: R_20.0K_603_1%)
RES 20.0K OHM 1/10W 1% 0603 SMD; Manufacturer: Panasonic; Manufacturer Part Number: ERJ3EKF2002V; Temperature Coefficient: 100ppm/°C; Power Rating: 100mW; Voltage Rating: 75V; Voltage Rating (DC): 50V; ComponentLink1Description: Tech Guide; ComponentLink1URL: https://industrial.panasonic.com/cdbs/www-data/pdf/RDA0000/DMA0000COL11.pdf?src-supplier=RSComponents; ComponentLink2Description: Supplier Link; ComponentLink2URL: https://www.digikey.com/products/en?keywords=P20.0KHCT-ND; ComponentLink3Description: Datasheet; ComponentLink3URL: https://industrial.panasonic.com/cdbs/www-data/pdf/RDA0000/AOA0000C304.pdf; Supplier 1: Digi-Key; Stock 1: 2931977; Pricing 1: 1 = 0.100000, 10 = 0.065000, 100 = 0.026400, 1000 = 0.011860, 2500 = 0.010290 (USD); RoHS: Yes; Mount: Surface Mount; Case/Package: 0603; Weight: 7.1E-05oz; Contact Plating: Tin; Case Code (Imperial): 0603; Case Code (Metric): 1608; Min Operating Temperature: -55°C; Max Operating Temperature: 155°C; Tolerance: 1%; Composition: Thick Film; Packaging: Tape and Reel; Package Quantity: 1; Termination: SMD/SMT; Number of Terminations: 2; Military Standard: Not; Max Power Dissipation: 100mW; Working Voltage: 75V; Features: Automotive AEC-Q200; Length: 1.6mm; Height: 0.45mm; Width: 0.8mm; Depth: 0.8mm; Radiation Hardening: No; REACH SVHC: No SVHC; Lead Free: Lead Free; Supplier Part Number 1: P20.0KHDKR-ND
simulation model RESISTOR (Resistor)
signal-integrity model Res
footprint RES_0603 (Chip Resistor, Body 1.6x0.8mm, IPC Medium Density)
pins: 1, 2

## R_24.9_603_1%
designator R?  value 24.9  (hidden comment: R_24.9_603_1%)
RES 24.9 OHM 1/10W 1% 0603 SMD; Manufacturer: Panasonic Electronic Components; Manufacturer Part Number: ERJ-3EKF24R9V; Power (Watts): 0.1W, 1/10W; Temperature Coefficient: ±100ppm/°C; Supplier 1: Digi-Key; RoHS: RoHS Compliant; Category: Resistors; Stock 1: 252207; Pricing 1: 1=0.1, 50=0.0114, 100=0.0084, 250=0.00644, 500=0.00514, 1000=0.00379 (USD); Packaging: Cut Tape (CT); Resistance (Ohms): 24.9; Tolerance: ±1%; Composition: Thick Film; Features: Automotive AEC-Q200; Operating Temperature: -55°C ~ 155°C; Package / Case: 0603 (1608 Metric); Supplier Device Package: 0603; Size / Dimension: 0.063" L x 0.031" W (1.60mm x 0.80mm); Height: 0.022" (0.55mm); Number of Terminations: 2; ComponentLink1URL: http://industrial.panasonic.com/www-cgi/jvcr13pz.cgi?E+PZ+3+AOA0002+ERJ3EKF24R9V+7+WW; ComponentLink1Description: http://industrial.panasonic.com/www-cgi/jvcr13pz.cgi?E+PZ+3+AOA0002+ERJ3EKF24R9V+7+WW; Supplier Part Number 1: P24.9HCT-ND
simulation model RESISTOR (Resistor)
signal-integrity model Res
footprint RES_0603 (Chip Resistor, Body 1.6x0.8mm, IPC Medium Density)
pins: 1, 2

## R_24.9_805_1%
designator R?  (value not drawn)
RES 24.9 OHM 1/8W 1% 0805 SMD; Manufacturer: Vishay Dale; Manufacturer Part Number: CRCW080524R9FKEA; Resistance (Ohms): 24.9; Power (Watts): 0.125W, 1/8W; Temperature Coefficient: ±100ppm/°C; Supplier 1: Digi-Key; RoHS: RoHS Compliant; Category: Resistors; Stock 1: 12381; Pricing 1: 10=0.089, 50=0.0482, 200=0.02765, 1000=0.01885 (USD); Packaging: Cut Tape (CT); Tolerance: ±1%; Composition: Thick Film; Features: Automotive AEC-Q200 Qualified; Package / Case: 0805 (2012 Metric); Supplier Device Package: 0805 (2012 Metric); Size / Dimension: 0.079" L x 0.049" W (2.00mm x 1.25mm); Height: 0.020" (0.50mm); Number of Terminations: 2; ComponentLink1URL: http://www.vishay.com/docs/20035/dcrcwe3.pdf; ComponentLink1Description: http://www.vishay.com/docs/20035/dcrcwe3.pdf; Supplier Part Number 1: 541-24.9CCT-ND
simulation model RESISTOR (Resistor)
signal-integrity model Res
footprint RES_0603 (Chip Resistor, Body 1.6x0.8mm, IPC Medium Density)
footprint RES_0805 (Chip Resistor, Body 2.0x1.3mm, IPC Medium Density)
footprint RES_1206 (Chip Resistor, Body 3.2x1.6mm, IPC Medium Density)
footprint RES_0402 (Chip Resistor, Body 1.1x0.5mm, IPC Medium Density)
pins: 1, 2